# EAGLE library part 691243100008 (library Eagle_WR-TBL Rising Cage Clamp (rev20a))
WR-TBL Serie 2431 - 3.50 mm Vertical Entry Modular w. Rising Cage Clamp KIND PROPERTIES Pitch 3.5 mm MATERIAL PROPERTIES Insulator Material PA66 Insulator Flammability Rating UL94 V-0 Insulator Color Green Contact Material Copper Alloy Contact Plating Nickel over Tin Terminal Screw Material Steel Terminal Screw Plating Zinc Wire Guard Material Copper Alloy GENERAL INFORMATION Operating Temperature -30 up to +120 °C Compliance Lead free / RoHS ELECTRICAL PROPERTIES IR UL 10 A IR VDE 10 A Working Voltage [UL] 300 V (AC) Working Voltage [VDE] 130 V (AC) Withstanding Voltage [UL] 1600 V (AC) Withstanding Voltage [cULus] 1600 V (AC) Withstanding Voltage [VDE] 1250 V (AC) Contact Resistance [UL] 20 mΩ Contact Resistance [cULus] 20 mΩ Contact Resistance [VDE] 20 mΩ MECHANICAL PROPERTIES Wire Strip Length 6 (mm) Screw M2 Solid Wire Section (AWG) 30 to 16 (AWG) Solid Wire Section (Metric) 0.05 to 1.31 (mm²) Stranded Wire Section (AWG) 30 to 16 (AWG) Stranded Wire Section (Metric) 0.05 to 1.31 (mm²) CERTIFICATION cULus Approval E150931 UL Approval E150931 CAT. N°: CPA (3) VDE Approval 40015434 VDE Approval 40015434 TYPE: CPA PACKAGING PROPERTIES Packaging Box <https://katalog.we-online.com/media/images/v2/o60855v209%20Family_TBL_3_50_2431_VERTICAL_CABLE_ENTRY_W_RISING_CLAMP_6912431000XX.jpg> Details see: https://katalog.we-online.com/en/em/TBL_3_50_2431_VERTICAL_CABLE_ENTRY_W_RISING_CLAMP_6912431000XX Updated by Ella Wu 2019-11-12 2019(C) Wurth Elektronik
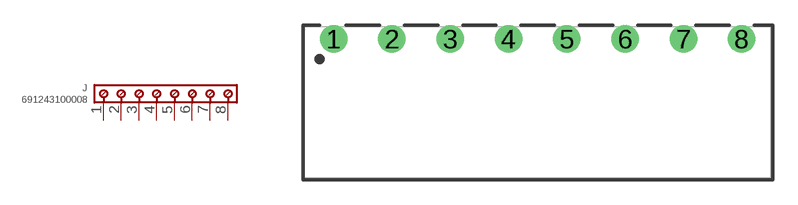
[diagram p34: symbol with the pads of 691243100008; footprint 691243100008]

Designator prefix J

## 691243100008 (DATASHEET-URL: https://www.we-online.com/catalog/datasheet/691243100008.pdf; IR-UL: 10A; IR-VDE: 10A; MOUNT: THT; PART-NUMBER: 691243100008; PINS: 8; PITCH: 3.5mm; TYPE: Vertical; WIRE: 30 to 16 (AWG) 0.05 to 1.31 (mm²); WORKING-VOLTAGE-UL: 300V (AC); WORKING-VOLTAGE-VDE: 130V (AC))  [691243100008]
1  1  pas
2  2  pas
3  3  pas
4  4  pas
5  5  pas
6  6  pas
7  7  pas
8  8  pas

## Footprint 691243100008 (pad centres in mm)
WR-TBL Serie 2431 - 3.50 mm Vertical Entry Modular w. Rising Cage Clamp Max Height =9.1mm , Pitch 3.5mm , 8 Pins
drill 1.1: 1 -12.25,0; 2 -8.75,0; 3 -5.25,0; 4 -1.75,0; 5 1.75,0; 6 5.25,0; 7 8.75,0; 8 12.25,0